# EAGLE library part SW-PWR-E-SWITCH (library SM1000)
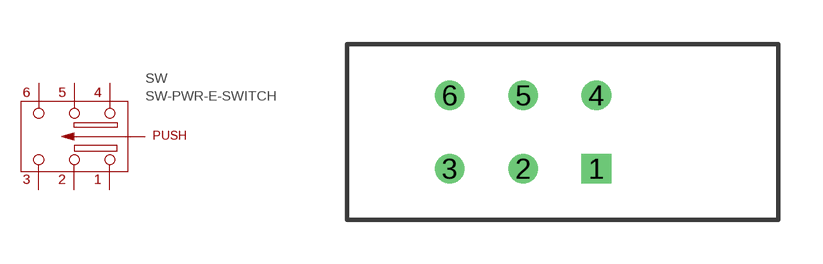
[diagram p9: symbol with the pads of SW-PWR; footprint SW-PWR]

Designator prefix SW

## SW-PWR-E-SWITCH  [SW-PWR]
1  1
2  2
3  3
4  4
5  5
6  6

## Footprint SW-PWR (pad centres in mm)
drill 0.5 square: 1 2.5,-1.25
drill 0.5: 2 0,-1.25; 3 -2.5,-1.25; 4 2.5,1.25; 5 0,1.25; 6 -2.5,1.25